# Altium schematic symbol library SCH - POWER - SWITCHMODE - TI TPS56921PWP.SchLib: 1 symbol
Pins are listed as number, name and electrical type; pins without a type are passive.

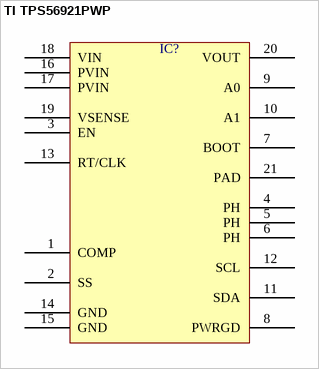
[diagram p0: symbol TI TPS56921PWP]

## TI TPS56921PWP
designator IC?  (value not drawn)
pins: 1 COMP, 2 SS, 3 EN, 4 PH, 5 PH, 6 PH, 7 BOOT, 8 PWRGD, 9 A0, 10 A1, 11 SDA, 12 SCL, 13 RT/CLK, 14 GND, 15 GND, 16 PVIN, 17 PVIN, 18 VIN, 19 VSENSE, 20 VOUT, 21 PAD